# Altium schematic symbol library C4AQHBU4330P1WJ.SchLib: 1 symbol
Pins are listed as number, name and electrical type; pins without a type are passive.

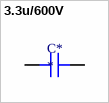
[diagram p0: symbol 3.3u/600V]

## 3.3u/600V
designator C*
footprint C4AQHBU4330P1WJ
pins: 1, 2